# Altium footprint library PCB.PcbLib: 18 footprints (part 1 of 2)
Each footprint in its own frame and in the unit in brackets; x right, y up, seen from the top. Pads: shape width x height; smd on the part's side, far side on the other; paste and mask are expansions set on the pad; w line width, h text height; cw(c..) or ccw(c..) is an arc to the next point about the centre after c.
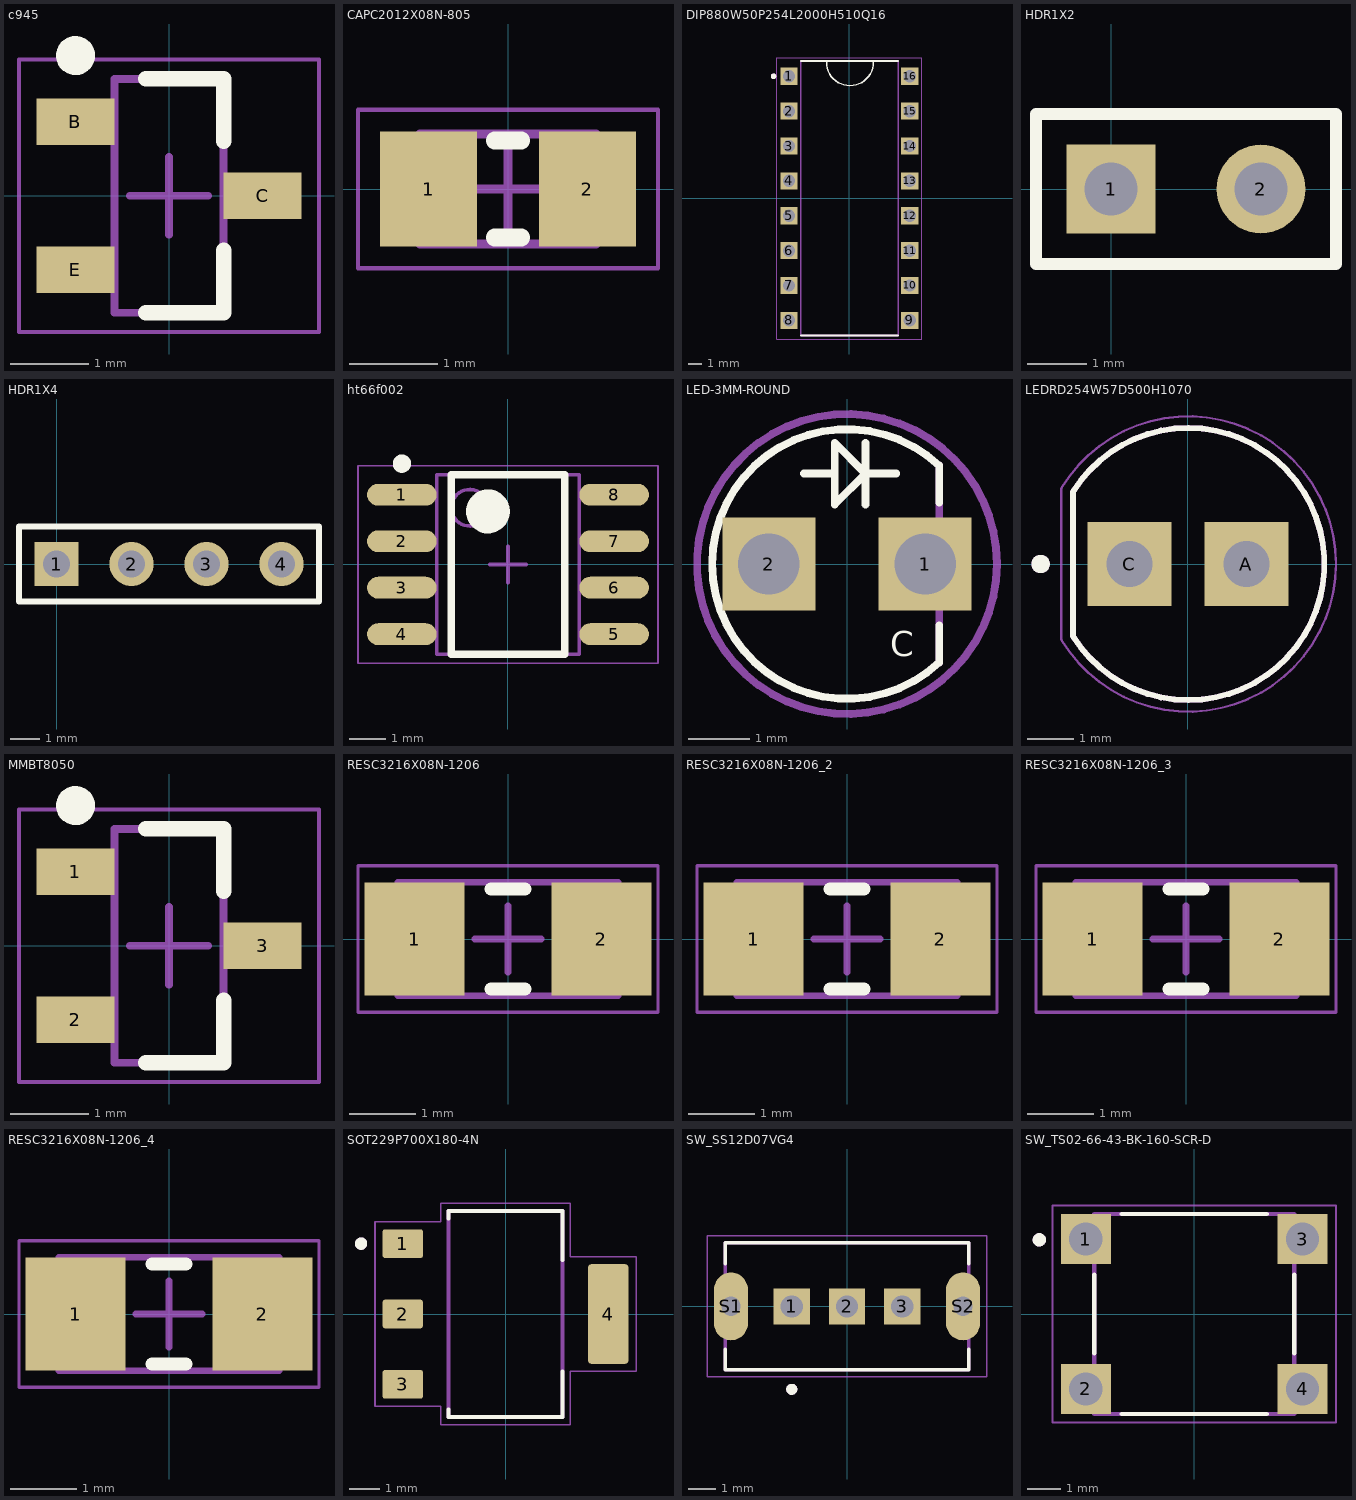
[diagram p0: the footprints below, top view; thin cyan lines are the x and y axes]

## c945 [mm] "SOT23, 3-Leads, Body 2.90x2.45mm, Pitch 0.95mm, IPC Medium Density"
height 1.1
pads (3):
  rect 1x0.6 smd: B(-1.2,0.95) C(1.2,0) E(-1.2,-0.95)
Top Overlay:
  circle w0.25: c-1.2,1.8 r0.125
  lines w0.2: -0.3,-1.5 0.7,-1.5 0.7,-0.7 ; -0.3,1.5 0.7,1.5 0.7,0.7
Mechanical 13:
  lines w0.1: -0.7,-1.5 -0.7,1.5 0.7,1.5 0.7,-1.5 -0.7,-1.5
Mechanical 15:
  lines w0.05: -1.925,-1.75 -1.925,1.75 1.925,1.75 1.925,-1.75 -1.925,-1.75
  lines w0.1: -0.5,0 0.5,0 ; 0,-0.5 0,0.5
3D body: height 1.1, standoff 0.1, extent -0.7,-1.5 0.7,1.5

## CAPC2012X08N-805 [mm] "Chip Capacitor, 2-Leads, Body 2.00x1.25mm, IPC Medium Density"
height 0.8
pads (2):
  rect 1.1x1.3 smd: 1(-0.9,0) 2(0.9,0)
Top Overlay:
  lines w0.2: -0.15,-0.55 0.15,-0.55 ; -0.15,0.55 0.15,0.55
Mechanical 13:
  lines w0.1: -1,-0.625 -1,0.625 1,0.625 1,-0.625 -1,-0.625
Mechanical 15:
  lines w0.05: -1.7,-0.9 -1.7,0.9 1.7,0.9 1.7,-0.9 -1.7,-0.9
  lines w0.1: -0.5,0 0.5,0 ; 0,-0.5 0,0.5
3D body "CAPC2012X08N-805.step": height 0.8, standoff 0, extent -1,-0.625 1,0.625

## DIP880W50P254L2000H510Q16 [mm]
height 100
pads (16):
  rect 1.25x1.25 / inner round 1.25 / far side rect 1.25x1.25 hole 0.9: 1(-4.4,8.89)
  rect 1.25x1.25 hole 0.9: 2(-4.4,6.35) 3(-4.4,3.81) 4(-4.4,1.27) 5(-4.4,-1.27) 6(-4.4,-3.81) 7(-4.4,-6.35) 8(-4.4,-8.89) 9(4.4,-8.89) 10(4.4,-6.35) 11(4.4,-3.81) 12(4.4,-1.27) 13(4.4,1.27) 14(4.4,3.81) 15(4.4,6.35) 16(4.4,8.89)
Top Overlay:
  circle w0.2: c-5.525,8.89 r0.1
  lines w0.1: -1.659,9.906 ccw(c0.041,9.906) 1.741,9.906
  lines w0.127: -3.55,-10 3.55,-10 ; -3.55,10 3.55,10
Mechanical 13:
  circle w0.2: c-5.525,8.89 r0.1
  lines w0.127: -3.55,-10 -3.55,10 3.55,10 3.55,-10 -3.55,-10
Mechanical 15:
  lines w0.05: -5.275,-10.25 -5.275,10.25 5.275,10.25 5.275,-10.25 -5.275,-10.25
3D body "step_temp.STEP": height 5.1, standoff -3.3, extent -4.62,-10 4.621,10

## HDR1X2 [mm] "Connector; Header; 2 Position"
height 1.1
pads (2):
  rect 1.5x1.5 hole 0.9: 1(0,0)
  round 1.5 hole 0.9: 2(2.54,0)
Top Overlay:
  lines w0.2: -1.27,-1.27 3.81,-1.27 3.81,1.27 -1.27,1.27 -1.27,-1.27

## HDR1X4 [mm] "Connector; Header; 4 Position"
height 1.1
pads (4):
  rect 1.5x1.5 hole 0.9: 1(0,0)
  round 1.5 hole 0.9: 2(2.54,0) 3(5.08,0) 4(7.62,0)
Top Overlay:
  lines w0.2: -1.27,-1.27 8.89,-1.27 8.89,1.27 -1.27,1.27 -1.27,-1.27

## ht66f002 [mm] "SOIC, 8-Leads, Body 4.90x3.90mm, Pitch 1.27mm, IPC Medium Density"
height 1.75
pads (8):
  oval 1.9x0.6 smd: 1(-2.9,1.905) 2(-2.9,0.635) 3(-2.9,-0.635) 4(-2.9,-1.905) 5(2.9,-1.905) 6(2.9,-0.635) 7(2.9,0.635) 8(2.9,1.905)
Top Overlay:
  circle w0.25: c-2.9,2.755 r0.125
  circle w0.6: c-0.55,1.45 r0.3
  lines w0.2: -1.55,-2.45 -1.55,2.45 1.55,2.45 1.55,-2.45 -1.55,-2.45
Mechanical 13:
  circle w0.1: c-1.05,1.55 r0.5
  lines w0.1: -1.95,-2.45 -1.95,2.45 1.95,2.45 1.95,-2.45 -1.95,-2.45
Mechanical 15:
  lines w0.05: -4.1,-2.7 -4.1,2.7 4.1,2.7 4.1,-2.7 -4.1,-2.7
  lines w0.1: -0.5,0 0.5,0 ; 0,-0.5 0,0.5
3D body: height 1.75, standoff 0.01, extent -1.95,-2.45 1.95,2.45

## LED-3MM-ROUND [mm]
height 1.1
pads (2):
  rect 1.508x1.508 hole 1: 1(1.27,0) 2(-1.27,0)
Top Overlay:
  lines w0.127: -0.7,1.47 -0.2,1.47 ; 0.3,0.97 0.3,1.47 ; 0.3,1.97 0.3,1.47 ; 0.8,1.47 0.3,1.47 ; 1.496,-1.604 cw(c0,0) 1.496,1.604 ; 1.5,-1.6 1.5,-1 ; 1.5,1 1.5,1.6 ; -0.2,1.47 -0.2,1.97 0.3,1.47 ; -0.2,1.47 -0.2,0.97 0.3,1.47
  text "C" at 0.7,-1.5 h0.41
Mechanical 13:
  lines w0.127: 1.5,-1.6 1.5,1.6
Mechanical 15:
  circle w0.127: c0,0 r2.44

## LEDRD254W57D500H1070 [mm]
height 1.1
pads (2):
  rect 1.815x1.815 hole 1: A(1.27,0) C(-1.27,0)
Top Overlay:
  circle w0.2: c-3.2,0 r0.1
  lines w0.127: -2.5,-1.566 ccw(c0.006,0) -2.5,1.566 -2.5,-1.566
Mechanical 13:
  circle w0.2: c-3.2,0 r0.1
  lines w0.127: -2.5,-1.566 ccw(c0.006,0) -2.5,1.566 -2.5,-1.566
Mechanical 15:
  lines w0.05: -2.75,-1.64 -2.75,1.64 ; -2.743,-1.652 ccw(c0.007,0) -2.743,1.652

## MMBT8050 [mm] "SOT23, 3-Leads, Body 2.90x2.45mm, Pitch 0.95mm, IPC Medium Density"
height 1.1
pads (3):
  rect 1x0.6 smd: 1(-1.2,0.95) 2(-1.2,-0.95) 3(1.2,0)
Top Overlay:
  circle w0.25: c-1.2,1.8 r0.125
  lines w0.2: -0.3,-1.5 0.7,-1.5 0.7,-0.7 ; -0.3,1.5 0.7,1.5 0.7,0.7
Mechanical 13:
  lines w0.1: -0.7,-1.5 -0.7,1.5 0.7,1.5 0.7,-1.5 -0.7,-1.5
Mechanical 15:
  lines w0.05: -1.925,-1.75 -1.925,1.75 1.925,1.75 1.925,-1.75 -1.925,-1.75
  lines w0.1: -0.5,0 0.5,0 ; 0,-0.5 0,0.5
3D body: height 1.1, standoff 0.1, extent -0.7,-1.5 0.7,1.5

## RESC3216X08N-1206 [mm] "Chip Resistor, 2-Leads, Body 3.20x1.60mm, IPC Medium Density"
height 0.8
pads (2):
  rect 1.5x1.7 smd: 1(-1.4,0) 2(1.4,0)
Top Overlay:
  lines w0.2: -0.25,-0.75 0.25,-0.75 ; -0.25,0.75 0.25,0.75
Mechanical 13:
  lines w0.1: -1.65,-0.85 1.65,-0.85 1.65,0.85 -1.65,0.85 -1.65,-0.85
Mechanical 15:
  lines w0.05: -2.25,-1.1 2.25,-1.1 2.25,1.1 -2.25,1.1 -2.25,-1.1
  lines w0.1: -0.5,0 0.5,0 ; 0,-0.5 0,0.5
3D body "RESC3216X08N-1206.step": height 0.8, standoff 0, extent -1.65,-0.85 1.65,0.85

## RESC3216X08N-1206_2 [mm]
pads (2):
  rect 1.5x1.7 smd: 1(-1.4,0) 2(1.4,0)
Top Overlay:
  lines w0.2: -0.25,-0.75 0.25,-0.75 ; -0.25,0.75 0.25,0.75
Mechanical 13:
  lines w0.1: -1.65,-0.85 1.65,-0.85 1.65,0.85 -1.65,0.85 -1.65,-0.85
Mechanical 15:
  lines w0.05: -2.25,-1.1 2.25,-1.1 2.25,1.1 -2.25,1.1 -2.25,-1.1
  lines w0.1: -0.5,0 0.5,0 ; 0,-0.5 0,0.5
3D body "RESC3216X08N-1206.step": height 0.8, standoff 0, extent -1.65,-0.85 1.65,0.85

## RESC3216X08N-1206_3 [mm]
pads (2):
  rect 1.5x1.7 smd: 1(-1.4,0) 2(1.4,0)
Top Overlay:
  lines w0.2: -0.25,-0.75 0.25,-0.75 ; -0.25,0.75 0.25,0.75
Mechanical 13:
  lines w0.1: -1.65,-0.85 1.65,-0.85 1.65,0.85 -1.65,0.85 -1.65,-0.85
Mechanical 15:
  lines w0.05: -2.25,-1.1 2.25,-1.1 2.25,1.1 -2.25,1.1 -2.25,-1.1
  lines w0.1: -0.5,0 0.5,0 ; 0,-0.5 0,0.5
3D body "RESC3216X08N-1206.step": height 0.8, standoff 0, extent -1.65,-0.85 1.65,0.85

## RESC3216X08N-1206_4 [mm]
pads (2):
  rect 1.5x1.7 smd: 1(-1.4,0) 2(1.4,0)
Top Overlay:
  lines w0.2: -0.25,-0.75 0.25,-0.75 ; -0.25,0.75 0.25,0.75
Mechanical 13:
  lines w0.1: -1.65,-0.85 1.65,-0.85 1.65,0.85 -1.65,0.85 -1.65,-0.85
Mechanical 15:
  lines w0.05: -2.25,-1.1 2.25,-1.1 2.25,1.1 -2.25,1.1 -2.25,-1.1
  lines w0.1: -0.5,0 0.5,0 ; 0,-0.5 0,0.5
3D body "RESC3216X08N-1206.step": height 0.8, standoff 0, extent -1.65,-0.85 1.65,0.85

## SOT229P700X180-4N [mm]
height 1.8
pads (4):
  rrect15% 1.31x0.93 smd: 1(-3.345,2.29) 2(-3.345,0) 3(-3.345,-2.29)
  rrect15% 1.31x3.24 smd: 4(3.345,0)
Top Overlay:
  circle w0.2: c-4.703,2.29 r0.1
  lines w0.127: -1.86,-3.11 -1.86,-3.36 1.86,-3.36 1.86,-1.87 ; -1.86,3.1 -1.86,3.36 1.86,3.36 1.86,1.76
Mechanical 13:
  circle w0.2: c-4.703,2.29 r0.1
  lines w0.127: -1.86,-3.36 1.86,-3.36 1.86,3.36 -1.86,3.36 -1.86,-3.36
Mechanical 15:
  lines w0.05: -4.25,-3.01 -4.25,3.01 -2.11,3.01 -2.11,3.61 2.11,3.61 2.11,1.87 4.25,1.87 4.25,-1.87 2.11,-1.87 2.11,-3.61 -2.11,-3.61 -2.11,-3.01 -4.25,-3.01
3D body "step_temp.STEP": height 1.8, standoff 0, extent -3.499,-3.251 3.499,3.251

## SW_SS12D07VG4 [mm]
height 1.1
pads (5):
  rect 1.308x1.308 hole 0.8: 1(-2,0) 2(0,0) 3(2,0)
  oval 1.23x2.46 hole 0.7 square: S1(-4.2,0) S2(4.2,0)
Top Overlay:
  circle w0.2: c-2,-3 r0.1
  lines w0.127: -4.4,-1.55 -4.4,-2.3 4.4,-2.3 4.4,-1.55 ; -4.4,1.55 -4.4,2.3 4.4,2.3 4.4,1.55
Mechanical 13:
  circle w0.2: c-2,-3 r0.1
  lines w0.127: -4.4,-2.3 4.4,-2.3 4.4,2.3 -4.4,2.3 -4.4,-2.3
Mechanical 15:
  lines w0.05: -5.065,-2.55 5.065,-2.55 5.065,2.55 -5.065,2.55 -5.065,-2.55

## SW_TS02-66-43-BK-160-SCR-D [mm]
pads (4):
  rect 1.508x1.508 / inner round 1.508 / far side rect 1.508x1.508 hole 1: 1(-3.25,2.25)
  rect 1.508x1.508 hole 1: 2(-3.25,-2.25) 3(3.25,2.25) 4(3.25,-2.25)
Top Overlay:
  circle w0.2: c-4.647,2.226 r0.1
  lines w0.127: -3,-1.176 -3,1.176 ; -2.176,-3 2.176,-3 ; -2.176,3 2.176,3 ; 3,-1.176 3,1.176
Mechanical 13:
  circle w0.2: c-4.647,2.226 r0.1
  lines w0.127: -3,-3 3,-3 3,3 -3,3 -3,-3
Mechanical 15:
  lines w0.05: -4.254,-3.254 -4.254,3.254 4.254,3.254 4.254,-3.254 -4.254,-3.254